# EAGLE library part TPS54332DDAR (library pimoroni-ics)
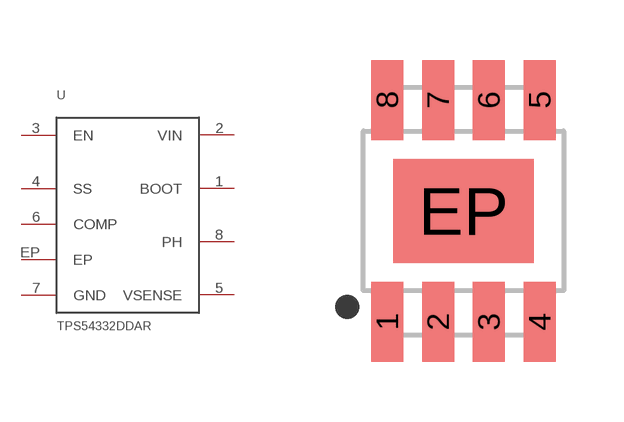
[diagram p3: symbol with the pads of SO_POWERPAD_8; footprint SO_POWERPAD_8]

Designator prefix -

## TPS54332DDAR  [SO_POWERPAD_8]
1  BOOT
2  VIN
3  EN
4  SS
5  VSENSE
6  COMP
7  GND
8  PH
EP  EP

## Footprint SO_POWERPAD_8 (pad centres in mm)
smd 0.8 x 2: 1 -1.905,-2.775; 2 -0.635,-2.775; 3 0.635,-2.775; 4 1.905,-2.775; 5 1.905,2.775; 6 0.635,2.775; 7 -0.635,2.775; 8 -1.905,2.775
smd 3.5 x 2.6: EP 0,0